# EAGLE library part MC9S08QG8-8* (library freescale-hcs08)
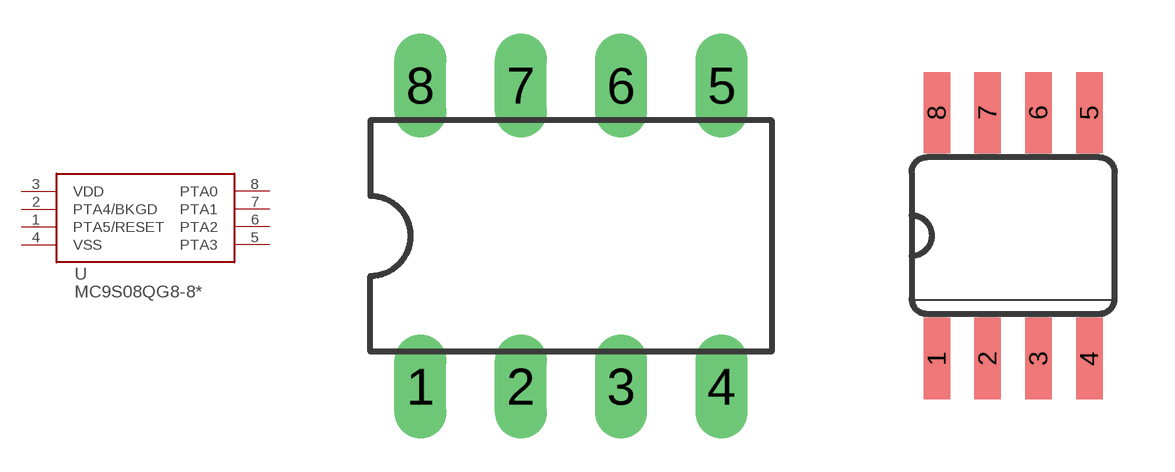
[diagram p2: symbol with the pads of DIL08; footprints DIL08, SO08]

Designator prefix -

## MC9S08QG8-8PAE  [DIL08]
1  PTA5/RESET
2  PTA4/BKGD
3  VDD
4  VSS
5  PTA3
6  PTA2
7  PTA1
8  PTA0

## MC9S08QG8-8DNE  [SO08]
Pads as for DIL08

## Footprint DIL08 (pad centres in mm)
Dual In Line Package
drill 0.813 long: 1 -3.81,-3.81; 2 -1.27,-3.81; 3 1.27,-3.81; 4 3.81,-3.81; 5 3.81,3.81; 6 1.27,3.81; 7 -1.27,3.81; 8 -3.81,3.81

## Footprint SO08 (pad centres in mm)
Small Outline Package
smd 0.66 x 2.032: 1 -1.905,-3.073; 2 -0.635,-3.073; 3 0.635,-3.073; 4 1.905,-3.073; 5 1.905,3.073; 6 0.635,3.073; 7 -0.635,3.073; 8 -1.905,3.073